# Altium footprint library RV16A.PcbLib: 4 footprints
Each footprint in its own frame and in the unit in brackets; x right, y up, seen from the top. Pads: shape width x height; smd on the part's side, far side on the other; paste and mask are expansions set on the pad; w line width, h text height; cw(c..) or ccw(c..) is an arc to the next point about the centre after c.
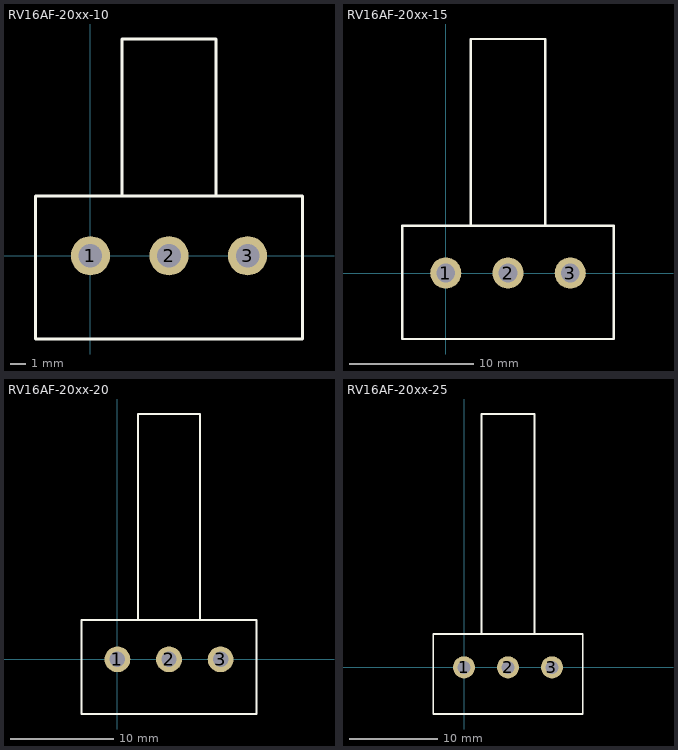
[diagram p0: the footprints below, top view; thin cyan lines are the x and y axes]

## RV16AF-20xx-10 [mm]
pads (3):
  round 2.5 hole 1.5: 1(0,0) 2(5,0) 3(10,0)
Top Overlay:
  lines w0.2: 2,3.8 2,13.8 8,13.8 8,3.8 ; -3.5,-5.3 13.5,-5.3 13.5,3.8 -3.5,3.8 -3.5,-5.3
3D body: height 0.5, standoff -3.5, extent 9.5,-0.25 10.5,0.25
3D body: height 0.5, standoff -3.5, extent 4.5,-0.25 5.5,0.25
3D body: height 0.5, standoff -3.5, extent -0.5,-0.25 0.5,0.25
3D body: height 16.75, standoff 8.25, extent 0.751,0 9.249,3.8
3D body: height 6, standoff 0.5, extent -3,-0.2 13,0.2
3D body: height 15.5, standoff 9.5, extent 2.005,3.8 7.995,13.8
3D body: height 20.74, standoff 4.25, extent -3.248,-5.3 13.248,0

## RV16AF-20xx-15 [mm]
pads (3):
  round 2.5 hole 1.5: 1(0,0) 2(5,0) 3(10,0)
Top Overlay:
  lines w0.2: 2,3.8 2,18.8 8,18.8 8,3.8 ; -3.5,-5.3 13.5,-5.3 13.5,3.8 -3.5,3.8 -3.5,-5.3
3D body: height 0.5, standoff -3.5, extent 9.5,-0.25 10.5,0.25
3D body: height 0.5, standoff -3.5, extent 4.5,-0.25 5.5,0.25
3D body: height 0.5, standoff -3.5, extent -0.5,-0.25 0.5,0.25
3D body: height 16.75, standoff 8.25, extent 0.751,0 9.249,3.8
3D body: height 6, standoff 0.5, extent -3,-0.2 13,0.2
3D body: height 15.5, standoff 9.5, extent 2.005,3.8 8.005,18.8
3D body: height 20.74, standoff 4.25, extent -3.248,-5.3 13.248,0

## RV16AF-20xx-20 [mm]
pads (3):
  round 2.5 hole 1.5: 1(0,0) 2(5,0) 3(10,0)
Top Overlay:
  lines w0.2: 2,3.8 2,23.8 8,23.8 8,3.8 ; -3.5,-5.3 -3.5,3.8 13.5,3.8 13.5,-5.3 -3.5,-5.3
3D body: height 20.74, standoff 4.25, extent -3.248,-5.3 13.248,0
3D body: height 15.5, standoff 9.5, extent 1.91,3.8 7.89,23.8
3D body: height 6, standoff 0.5, extent -3,-0.2 13,0.2
3D body: height 16.75, standoff 8.25, extent 0.751,0 9.249,3.8
3D body: height 0.5, standoff -3.5, extent -0.5,-0.25 0.5,0.25
3D body: height 0.5, standoff -3.5, extent 4.5,-0.25 5.5,0.25
3D body: height 0.5, standoff -3.5, extent 9.5,-0.25 10.5,0.25

## RV16AF-20xx-25 [mm]
pads (3):
  round 2.5 hole 1.5: 1(0,0) 2(5,0) 3(10,0)
Top Overlay:
  lines w0.2: 2,3.8 2,28.8 8,28.8 8,3.8 ; -3.5,-5.3 -3.5,3.8 13.5,3.8 13.5,-5.3 -3.5,-5.3
3D body: height 20.74, standoff 4.25, extent -3.248,-5.3 13.248,0
3D body: height 15.5, standoff 9.5, extent 2.013,3.8 7.987,28.8
3D body: height 6, standoff 0.5, extent -3,-0.2 13,0.2
3D body: height 16.75, standoff 8.25, extent 0.751,0 9.249,3.8
3D body: height 0.5, standoff -3.5, extent -0.5,-0.25 0.5,0.25
3D body: height 0.5, standoff -3.5, extent 4.5,-0.25 5.5,0.25
3D body: height 0.5, standoff -3.5, extent 9.5,-0.25 10.5,0.25